# Altium footprint library USBBSRAWTSPCC.PcbLib: 1 footprints
Each footprint in its own frame and in the unit in brackets; x right, y up, seen from the top. Pads: shape width x height; smd on the part's side, far side on the other; paste and mask are expansions set on the pad; w line width, h text height; cw(c..) or ccw(c..) is an arc to the next point about the centre after c.
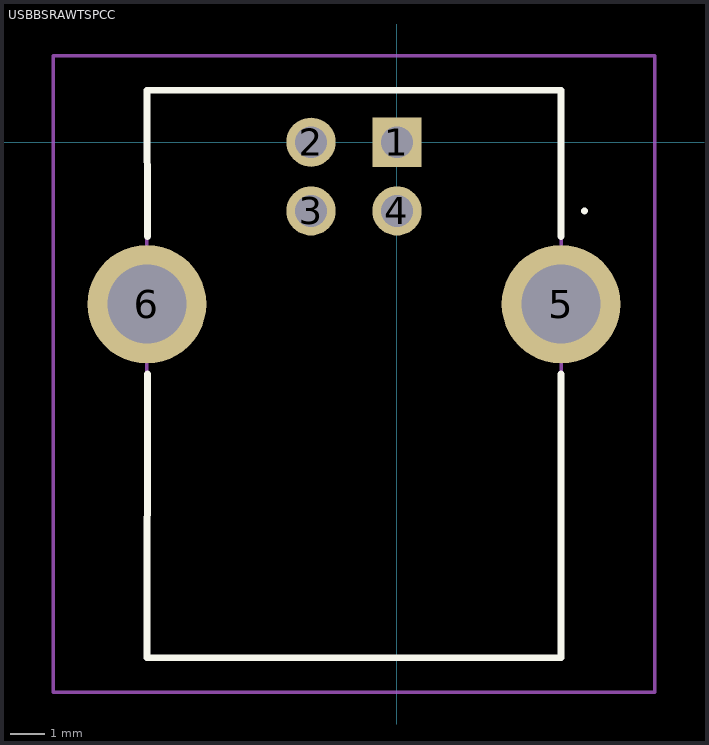
[diagram p0: the footprint, top view; thin cyan lines are the x and y axes]

## USBBSRAWTSPCC [mm]
pads (6):
  rect 1.431x1.431 hole 0.92: 1(0,0)
  round 1.431 hole 0.92: 2(-2.5,0) 3(-2.5,-2) 4(0,-2)
  round 3.45 hole 2.3: 5(4.77,-4.71) 6(-7.27,-4.71)
Top Overlay:
  lines w0.1: 5.4,-2 5.4,-2 ; 5.4,-2 ccw(c5.45,-2) 5.5,-2 ; 5.4,-2 cw(c5.45,-2) 5.5,-2 ; 5.5,-2 5.5,-2
  lines w0.2: -7.25,-6.74 -7.27,-14.99 4.77,-14.99 4.77,-6.74 ; -7.25,-2.74 -7.27,1.51 4.77,1.51 4.77,-2.74
Mechanical 15:
  lines w0.1: -7.27,-14.99 -7.27,1.51 4.77,1.51 4.77,-14.99 -7.27,-14.99
Mechanical 20:
  lines w0.1: -9.995,-15.99 -9.995,2.51 7.495,2.51 7.495,-15.99 -9.995,-15.99